# EAGLE library part E19-915MS1W (library SparkFun-RF)
Chengdu Ebyte E19-915M30S - 915M LoRa (FSK) TRX Using SX1276 This is a 915 MHz LoRa (or optionally FSK) modulated transciver bassed on the Semtech SX1276. It has a high ouput power of 1W an a pre-installed U.FL connector. Can be used with LoRa WAN with DIO0, DIO1, and DIO2 hooked up to controller interrupt inputs SparkFun Products: SAMD21 Pro RF 1W <https://www.sparkfun.com/products/15034>
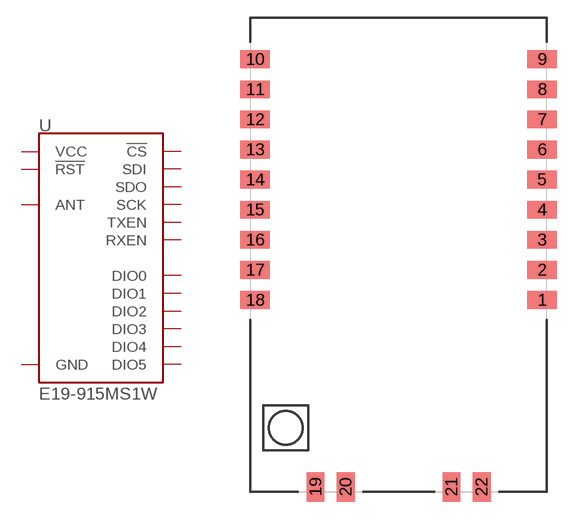
[diagram p34: symbol with the pads of E19-915MS1W; footprint E19-915MS1W]

Designator prefix U

## E19-915MS1W (PROD_ID: IC-14076)  [E19-915MS1W]
1  GND
2  DIO5
3  DIO4
4  DIO3
5  DIO2
6  DIO1
7  DIO0
8  !RST
9  GND
10  GND
11  VCC
12  SCK
13  SDO
14  SDI
15  !CS
16  TXEN
17  RXEN
18  GND
19  ANT
20  GND
21  GND
22  GND

## Footprint E19-915MS1W (pad centres in mm)
E19-915M30S - 1W 915M TRX Using SX1276 Specifications: Pin count: 22 Pin pitch: Varies Area: 1.15 in x 1.65 in Datasheet referenced for footprint <https://cdn.sparkfun.com/assets/d/8/3/6/e/E19__915M30S__Datasheet_EN_v1.0.pdf> Example device(s): SAMD21 ProRF 1W
smd 2.5 x 1.5: 1 12.1,-3.82; 2 12.1,-1.28; 3 12.1,1.26; 4 12.1,3.8; 5 12.1,6.34; 6 12.1,8.88; 7 12.1,11.42; 8 12.1,13.96; 9 12.1,16.5; 10 -12.1,16.5; 11 -12.1,13.96; 12 -12.1,11.42; 13 -12.1,8.88; 14 -12.1,6.34; 15 -12.1,3.8; 16 -12.1,1.26; 17 -12.1,-1.28; 18 -12.1,-3.82
smd 1.5 x 2.5: 19 -7,-19.6; 20 -4.46,-19.6; 21 4.46,-19.6; 22 7,-19.6